# Altium footprint library Connector_Wire.PcbLib: 326 footprints (part 21 of 21)
Each footprint in its own frame and in the unit in brackets; x right, y up, seen from the top. Pads: shape width x height; smd on the part's side, far side on the other; paste and mask are expansions set on the pad; w line width, h text height; cw(c..) or ccw(c..) is an arc to the next point about the centre after c.
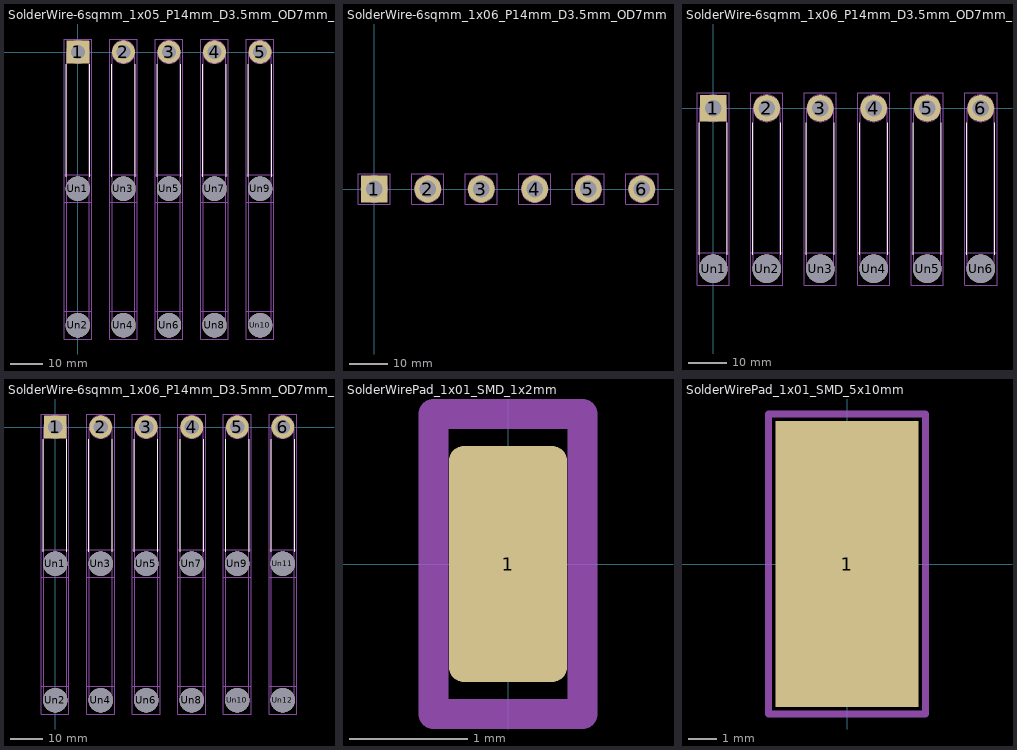
[diagram p20: the footprints below, top view; thin cyan lines are the x and y axes]

## SolderWire-6sqmm_1x05_P14mm_D3.5mm_OD7mm_Relief2x [mm]
pads (15):
  rrect4% 7x7 hole 4.4: 1(0,0)
  round 7 hole 4.4: 2(14,0) 3(28,0) 4(42,0) 5(56,0)
  round 7.5 hole 7.5: Un1(0,-42) Un2(0,-84) Un3(14,-42) Un4(14,-84) Un5(28,-42) Un6(28,-84) Un7(42,-42) Un8(42,-84) Un9(56,-42) Un10(56,-84)
F.SilkS:
  lines w0.254: -3.61,-38.39 -3.61,-3.76 ; 3.61,-38.39 3.61,-3.76 ; 10.39,-38.39 10.39,-3.76 ; 17.61,-38.39 17.61,-3.76 ; 24.39,-38.39 24.39,-3.76 ; 31.61,-38.39 31.61,-3.76 ; 38.39,-38.39 38.39,-3.76 ; 45.61,-38.39 45.61,-3.76 ; 52.39,-38.39 52.39,-3.76 ; 59.61,-38.39 59.61,-3.76
B.SilkS:
  lines w0.254: -3.61,-80.39 -3.61,-45.61 ; 3.61,-80.39 3.61,-45.61 ; 10.39,-80.39 10.39,-45.61 ; 17.61,-80.39 17.61,-45.61 ; 24.39,-80.39 24.39,-45.61 ; 31.61,-80.39 31.61,-45.61 ; 38.39,-80.39 38.39,-45.61 ; 45.61,-80.39 45.61,-45.61 ; 52.39,-80.39 52.39,-45.61 ; 59.61,-80.39 59.61,-45.61
Top Assembly:
  circle w0.254: c56,-84 r3.5
  circle w0.254: c56,-42 r3.5
  circle w0.254: c56,0 r3.5
  circle w0.254: c42,-84 r3.5
  circle w0.254: c42,-42 r3.5
  circle w0.254: c42,0 r3.5
  circle w0.254: c28,-84 r3.5
  circle w0.254: c28,-42 r3.5
  circle w0.254: c28,0 r3.5
  circle w0.254: c14,-84 r3.5
  circle w0.254: c14,-42 r3.5
  circle w0.254: c14,0 r3.5
  circle w0.254: c0,-84 r3.5
  circle w0.254: c0,-42 r3.5
  circle w0.254: c0,0 r3.5
  lines w0.254: -3.5,-42 -3.5,0 ; 3.5,-42 3.5,0 ; 10.5,-42 10.5,0 ; 17.5,-42 17.5,0 ; 24.5,-42 24.5,0 ; 31.5,-42 31.5,0 ; 38.5,-42 38.5,0 ; 45.5,-42 45.5,0 ; 52.5,-42 52.5,0 ; 59.5,-42 59.5,0
  text "'.Designator'" at 23.953,-21.84 h1
Bottom Assembly:
  circle w0.254: c56,-84 r3.5
  circle w0.254: c56,-42 r3.5
  circle w0.254: c42,-84 r3.5
  circle w0.254: c42,-42 r3.5
  circle w0.254: c28,-84 r3.5
  circle w0.254: c28,-42 r3.5
  circle w0.254: c14,-84 r3.5
  circle w0.254: c14,-42 r3.5
  circle w0.254: c0,-84 r3.5
  circle w0.254: c0,-42 r3.5
  lines w0.254: -3.5,-84 -3.5,-42 ; 3.5,-84 3.5,-42 ; 10.5,-84 10.5,-42 ; 17.5,-84 17.5,-42 ; 24.5,-84 24.5,-42 ; 31.5,-84 31.5,-42 ; 38.5,-84 38.5,-42 ; 45.5,-84 45.5,-42 ; 52.5,-84 52.5,-42 ; 59.5,-84 59.5,-42
Top Courtyard:
  lines w0.254: -4.25,-88.25 4.25,-88.25 4.25,-79.75 -4.25,-79.75 -4.25,-88.25 ; -4.25,-46.25 4.25,-46.25 4.25,4 -4.25,4 -4.25,-46.25 ; 9.75,-88.25 18.25,-88.25 18.25,-79.75 9.75,-79.75 9.75,-88.25 ; 9.75,-46.25 18.25,-46.25 18.25,4 9.75,4 9.75,-46.25 ; 23.75,-88.25 32.25,-88.25 32.25,-79.75 23.75,-79.75 23.75,-88.25 ; 23.75,-46.25 32.25,-46.25 32.25,4 23.75,4 23.75,-46.25 ; 37.75,-88.25 46.25,-88.25 46.25,-79.75 37.75,-79.75 37.75,-88.25 ; 37.75,-46.25 46.25,-46.25 46.25,4 37.75,4 37.75,-46.25 ; 51.75,-88.25 60.25,-88.25 60.25,-79.75 51.75,-79.75 51.75,-88.25 ; 51.75,-46.25 60.25,-46.25 60.25,4 51.75,4 51.75,-46.25
Bottom Courtyard:
  lines w0.254: -4.25,-88.25 4.25,-88.25 4.25,-37.75 -4.25,-37.75 -4.25,-88.25 ; 9.75,-88.25 18.25,-88.25 18.25,-37.75 9.75,-37.75 9.75,-88.25 ; 23.75,-88.25 32.25,-88.25 32.25,-37.75 23.75,-37.75 23.75,-88.25 ; 37.75,-88.25 46.25,-88.25 46.25,-37.75 37.75,-37.75 37.75,-88.25 ; 51.75,-88.25 60.25,-88.25 60.25,-37.75 51.75,-37.75 51.75,-88.25
Top Designator:
  text ".Designator" at 20.382,-42.633 h1.52

## SolderWire-6sqmm_1x06_P14mm_D3.5mm_OD7mm [mm]
pads (6):
  rrect4% 7x7 hole 4.4: 1(0,0)
  round 7 hole 4.4: 2(14,0) 3(28,0) 4(42,0) 5(56,0) 6(70,0)
Top Assembly:
  circle w0.254: c70,0 r3.5
  circle w0.254: c56,0 r3.5
  circle w0.254: c42,0 r3.5
  circle w0.254: c28,0 r3.5
  circle w0.254: c14,0 r3.5
  circle w0.254: c0,0 r3.5
  text "'.Designator'" at 30.953,-0.84 h1
Top Courtyard:
  lines w0.254: -4.25,-4 4.25,-4 4.25,4 -4.25,4 -4.25,-4 ; 9.75,-4 18.25,-4 18.25,4 9.75,4 9.75,-4 ; 23.75,-4 32.25,-4 32.25,4 23.75,4 23.75,-4 ; 37.75,-4 46.25,-4 46.25,4 37.75,4 37.75,-4 ; 51.75,-4 60.25,-4 60.25,4 51.75,4 51.75,-4 ; 65.75,-4 74.25,-4 74.25,4 65.75,4 65.75,-4
Top Designator:
  text ".Designator" at 27.382,-0.508 h1.52

## SolderWire-6sqmm_1x06_P14mm_D3.5mm_OD7mm_Relief [mm]
pads (12):
  rrect4% 7x7 hole 4.4: 1(0,0)
  round 7 hole 4.4: 2(14,0) 3(28,0) 4(42,0) 5(56,0) 6(70,0)
  round 7.5 hole 7.5: Un1(0,-42) Un2(14,-42) Un3(28,-42) Un4(42,-42) Un5(56,-42) Un6(70,-42)
F.SilkS:
  lines w0.254: -3.61,-38.39 -3.61,-3.76 ; 3.61,-38.39 3.61,-3.76 ; 10.39,-38.39 10.39,-3.76 ; 17.61,-38.39 17.61,-3.76 ; 24.39,-38.39 24.39,-3.76 ; 31.61,-38.39 31.61,-3.76 ; 38.39,-38.39 38.39,-3.76 ; 45.61,-38.39 45.61,-3.76 ; 52.39,-38.39 52.39,-3.76 ; 59.61,-38.39 59.61,-3.76 ; 66.39,-38.39 66.39,-3.76 ; 73.61,-38.39 73.61,-3.76
Top Assembly:
  circle w0.254: c70,-42 r3.5
  circle w0.254: c70,0 r3.5
  circle w0.254: c56,-42 r3.5
  circle w0.254: c56,0 r3.5
  circle w0.254: c42,-42 r3.5
  circle w0.254: c42,0 r3.5
  circle w0.254: c28,-42 r3.5
  circle w0.254: c28,0 r3.5
  circle w0.254: c14,-42 r3.5
  circle w0.254: c14,0 r3.5
  circle w0.254: c0,-42 r3.5
  circle w0.254: c0,0 r3.5
  lines w0.254: -3.5,-42 -3.5,0 ; 3.5,-42 3.5,0 ; 10.5,-42 10.5,0 ; 17.5,-42 17.5,0 ; 24.5,-42 24.5,0 ; 31.5,-42 31.5,0 ; 38.5,-42 38.5,0 ; 45.5,-42 45.5,0 ; 52.5,-42 52.5,0 ; 59.5,-42 59.5,0 ; 66.5,-42 66.5,0 ; 73.5,-42 73.5,0
  text "'.Designator'" at 30.953,-21.84 h1
Top Courtyard:
  lines w0.254: -4.25,-46.25 4.25,-46.25 4.25,4 -4.25,4 -4.25,-46.25 ; 9.75,-46.25 18.25,-46.25 18.25,4 9.75,4 9.75,-46.25 ; 23.75,-46.25 32.25,-46.25 32.25,4 23.75,4 23.75,-46.25 ; 37.75,-46.25 46.25,-46.25 46.25,4 37.75,4 37.75,-46.25 ; 51.75,-46.25 60.25,-46.25 60.25,4 51.75,4 51.75,-46.25 ; 65.75,-46.25 74.25,-46.25 74.25,4 65.75,4 65.75,-46.25
Bottom Courtyard:
  lines w0.254: -4.25,-46.25 4.25,-46.25 4.25,-37.75 -4.25,-37.75 -4.25,-46.25 ; 9.75,-46.25 18.25,-46.25 18.25,-37.75 9.75,-37.75 9.75,-46.25 ; 23.75,-46.25 32.25,-46.25 32.25,-37.75 23.75,-37.75 23.75,-46.25 ; 37.75,-46.25 46.25,-46.25 46.25,-37.75 37.75,-37.75 37.75,-46.25 ; 51.75,-46.25 60.25,-46.25 60.25,-37.75 51.75,-37.75 51.75,-46.25 ; 65.75,-46.25 74.25,-46.25 74.25,-37.75 65.75,-37.75 65.75,-46.25
Top Designator:
  text ".Designator" at 27.382,-21.633 h1.52

## SolderWire-6sqmm_1x06_P14mm_D3.5mm_OD7mm_Relief2x [mm]
pads (18):
  rrect4% 7x7 hole 4.4: 1(0,0)
  round 7 hole 4.4: 2(14,0) 3(28,0) 4(42,0) 5(56,0) 6(70,0)
  round 7.5 hole 7.5: Un1(0,-42) Un2(0,-84) Un3(14,-42) Un4(14,-84) Un5(28,-42) Un6(28,-84) Un7(42,-42) Un8(42,-84) Un9(56,-42) Un10(56,-84) Un11(70,-42) Un12(70,-84)
F.SilkS:
  lines w0.254: -3.61,-38.39 -3.61,-3.76 ; 3.61,-38.39 3.61,-3.76 ; 10.39,-38.39 10.39,-3.76 ; 17.61,-38.39 17.61,-3.76 ; 24.39,-38.39 24.39,-3.76 ; 31.61,-38.39 31.61,-3.76 ; 38.39,-38.39 38.39,-3.76 ; 45.61,-38.39 45.61,-3.76 ; 52.39,-38.39 52.39,-3.76 ; 59.61,-38.39 59.61,-3.76 ; 66.39,-38.39 66.39,-3.76 ; 73.61,-38.39 73.61,-3.76
B.SilkS:
  lines w0.254: -3.61,-80.39 -3.61,-45.61 ; 3.61,-80.39 3.61,-45.61 ; 10.39,-80.39 10.39,-45.61 ; 17.61,-80.39 17.61,-45.61 ; 24.39,-80.39 24.39,-45.61 ; 31.61,-80.39 31.61,-45.61 ; 38.39,-80.39 38.39,-45.61 ; 45.61,-80.39 45.61,-45.61 ; 52.39,-80.39 52.39,-45.61 ; 59.61,-80.39 59.61,-45.61 ; 66.39,-80.39 66.39,-45.61 ; 73.61,-80.39 73.61,-45.61
Top Assembly:
  circle w0.254: c70,-84 r3.5
  circle w0.254: c70,-42 r3.5
  circle w0.254: c70,0 r3.5
  circle w0.254: c56,-84 r3.5
  circle w0.254: c56,-42 r3.5
  circle w0.254: c56,0 r3.5
  circle w0.254: c42,-84 r3.5
  circle w0.254: c42,-42 r3.5
  circle w0.254: c42,0 r3.5
  circle w0.254: c28,-84 r3.5
  circle w0.254: c28,-42 r3.5
  circle w0.254: c28,0 r3.5
  circle w0.254: c14,-84 r3.5
  circle w0.254: c14,-42 r3.5
  circle w0.254: c14,0 r3.5
  circle w0.254: c0,-84 r3.5
  circle w0.254: c0,-42 r3.5
  circle w0.254: c0,0 r3.5
  lines w0.254: -3.5,-42 -3.5,0 ; 3.5,-42 3.5,0 ; 10.5,-42 10.5,0 ; 17.5,-42 17.5,0 ; 24.5,-42 24.5,0 ; 31.5,-42 31.5,0 ; 38.5,-42 38.5,0 ; 45.5,-42 45.5,0 ; 52.5,-42 52.5,0 ; 59.5,-42 59.5,0 ; 66.5,-42 66.5,0 ; 73.5,-42 73.5,0
  text "'.Designator'" at 30.953,-21.84 h1
Bottom Assembly:
  circle w0.254: c70,-84 r3.5
  circle w0.254: c70,-42 r3.5
  circle w0.254: c56,-84 r3.5
  circle w0.254: c56,-42 r3.5
  circle w0.254: c42,-84 r3.5
  circle w0.254: c42,-42 r3.5
  circle w0.254: c28,-84 r3.5
  circle w0.254: c28,-42 r3.5
  circle w0.254: c14,-84 r3.5
  circle w0.254: c14,-42 r3.5
  circle w0.254: c0,-84 r3.5
  circle w0.254: c0,-42 r3.5
  lines w0.254: -3.5,-84 -3.5,-42 ; 3.5,-84 3.5,-42 ; 10.5,-84 10.5,-42 ; 17.5,-84 17.5,-42 ; 24.5,-84 24.5,-42 ; 31.5,-84 31.5,-42 ; 38.5,-84 38.5,-42 ; 45.5,-84 45.5,-42 ; 52.5,-84 52.5,-42 ; 59.5,-84 59.5,-42 ; 66.5,-84 66.5,-42 ; 73.5,-84 73.5,-42
Top Courtyard:
  lines w0.254: -4.25,-88.25 4.25,-88.25 4.25,-79.75 -4.25,-79.75 -4.25,-88.25 ; -4.25,-46.25 4.25,-46.25 4.25,4 -4.25,4 -4.25,-46.25 ; 9.75,-88.25 18.25,-88.25 18.25,-79.75 9.75,-79.75 9.75,-88.25 ; 9.75,-46.25 18.25,-46.25 18.25,4 9.75,4 9.75,-46.25 ; 23.75,-88.25 32.25,-88.25 32.25,-79.75 23.75,-79.75 23.75,-88.25 ; 23.75,-46.25 32.25,-46.25 32.25,4 23.75,4 23.75,-46.25 ; 37.75,-88.25 46.25,-88.25 46.25,-79.75 37.75,-79.75 37.75,-88.25 ; 37.75,-46.25 46.25,-46.25 46.25,4 37.75,4 37.75,-46.25 ; 51.75,-88.25 60.25,-88.25 60.25,-79.75 51.75,-79.75 51.75,-88.25 ; 51.75,-46.25 60.25,-46.25 60.25,4 51.75,4 51.75,-46.25 ; 65.75,-88.25 74.25,-88.25 74.25,-79.75 65.75,-79.75 65.75,-88.25 ; 65.75,-46.25 74.25,-46.25 74.25,4 65.75,4 65.75,-46.25
Bottom Courtyard:
  lines w0.254: -4.25,-88.25 4.25,-88.25 4.25,-37.75 -4.25,-37.75 -4.25,-88.25 ; 9.75,-88.25 18.25,-88.25 18.25,-37.75 9.75,-37.75 9.75,-88.25 ; 23.75,-88.25 32.25,-88.25 32.25,-37.75 23.75,-37.75 23.75,-88.25 ; 37.75,-88.25 46.25,-88.25 46.25,-37.75 37.75,-37.75 37.75,-88.25 ; 51.75,-88.25 60.25,-88.25 60.25,-37.75 51.75,-37.75 51.75,-88.25 ; 65.75,-88.25 74.25,-88.25 74.25,-37.75 65.75,-37.75 65.75,-88.25
Top Designator:
  text ".Designator" at 27.382,-42.633 h1.52

## SolderWirePad_1x01_SMD_1x2mm [mm]
pads (1):
  rrect25% 1x2 smd: 1(0,0)
Top Assembly:
  lines w0.254: -0.63,-1.27 0.63,-1.27 0.63,1.27 -0.63,1.27 -0.63,-1.27
  text "'.Designator'" at -4.047,-0.84 h1
Top Courtyard:
  lines w0.254: -0.63,-1.27 0.63,-1.27 0.63,1.27 -0.63,1.27 -0.63,-1.27
Top Designator:
  text ".Designator" at -7.768,-0.508 h1.52

## SolderWirePad_1x01_SMD_5x10mm [mm]
pads (1):
  rect 5x10 smd: 1(0,0)
Top Assembly:
  text "'.Designator'" at -4.047,-0.84 h1
Top Courtyard:
  lines w0.254: -2.75,-5.25 2.75,-5.25 2.75,5.25 -2.75,5.25 -2.75,-5.25
Top Designator:
  text ".Designator" at -7.768,-0.508 h1.52